# Altium schematic symbol library VCO.SCHLIB: 24 symbols
Pins are listed as number, name and electrical type; pins without a type are passive.

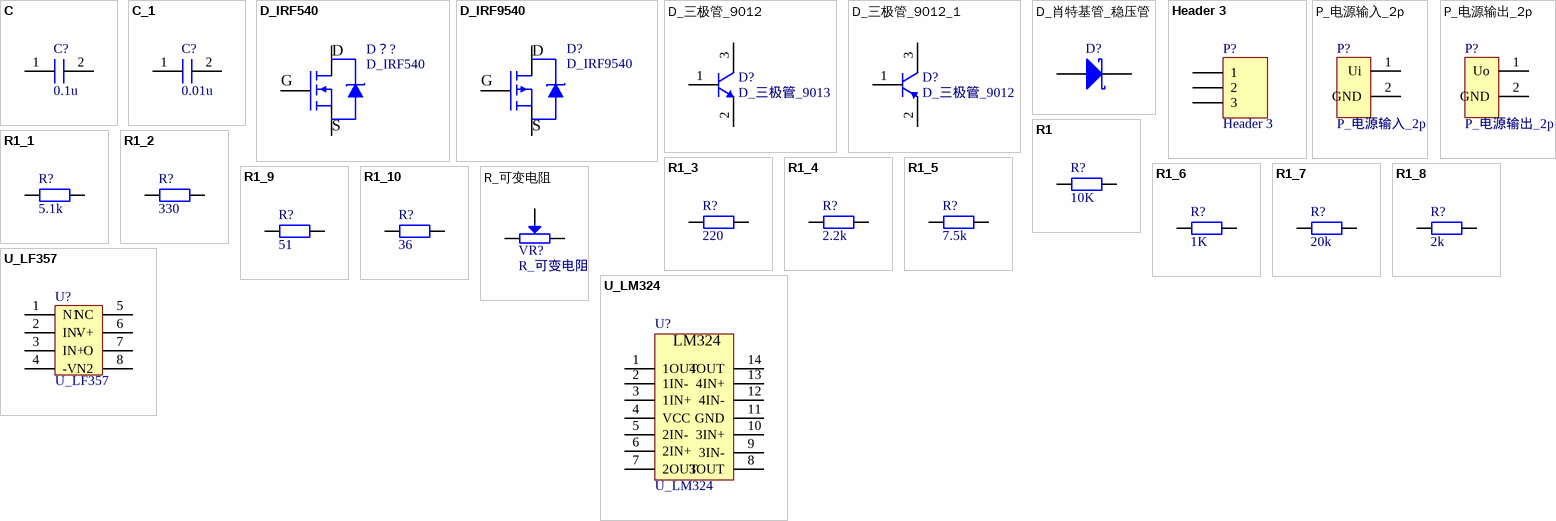
[diagram p0: symbols C to U_LM324]

## C
designator C?, comment 0.1u
footprint C 0805_M (1/8W贴片电阻)
pins: 1 "Supply Voltage", 2 "Supply Voltage"

## C_1
designator C?, comment 0.01u
footprint C 0805_M (1/8W贴片电阻)
pins: 1 "Supply Voltage", 2 "Supply Voltage"

## D_IRF540
designator D？?
footprint D_IRF540
pins: 1 G "24V输入", 2 D "24V输入", 3 S "24V输入"

## D_IRF9540
designator D?
footprint D_IRF9540
pins: 1 G "24V输入", 2 D "24V输入", 3 S "24V输入"

## D_三极管_9012
designator D?, comment D_三极管_9013
footprint D_三极管_9013
pins: 1 b "24V输入", 2 e "24V输入", 3 c "24V输入"

## D_三极管_9012_1
designator D?, comment D_三极管_9012
footprint D_三极管_9012
pins: 1 b "24V输入", 2 e "24V输入", 3 c "24V输入"

## D_肖特基管_稳压管
designator D?  (value not drawn)
Schottky Rectifier; Note: Terminal 2 is the TAB and is electrically connected to the cathode; Published: 8-Jun-2000; LatestRevisionDate: 17-Jul-2002; LatestRevisionNote: Re-released for DXP Platform.; DatasheetVersion: PD-2.057B; PackageVersion: Feb-1998; PackageReference: TO-220AC; Publisher: Altium Limited; PackageDescription: TO, Thru-Hole, Vertical, Heatsink Mounted; 3 In-Line Leads (1 Absent); Pitch 2.54 mm; ComponentLink1Description: Manufacturer Link; ComponentLink1URL: http://www.irf.com/; ComponentLink2Description: Datasheet; ComponentLink2URL: http://www.irf.com/product-info/datasheets/data/10tq.pdf
footprint TO-220AC (TO, Thru-Hole, Vertical, Heatsink Mounted; 3 In-Line Leads (1 Absent); Pitch 2.54 mm)
simulation model 10TQ035 (DIODE)
pins: 1 K, 3 A

## Header 3
designator P?
Header, 3-Pin; LatestRevisionDate: 17-Jul-2002; LatestRevisionNote: Re-released for DXP Platform.; Publisher: Altium Limited
signal-integrity model Connector
footprint P_电源输入端子_三端口_复用
pins: 1, 2, 3

## P_电源输入_2p
designator P?
footprint P_电源输入端子_二端口_复用
pins: 1 Ui "24V输入", 2 GND "24V输入"

## P_电源输出_2p
designator P?
footprint P_电源输入端子_二端口_复用
pins: 1 Uo "24V输入", 2 GND "24V输入"

## R1
designator R?, comment 10K
贴片电阻; 版权归属: 黎明电子style; BOM名称: 贴片电阻; 学习资源: https://lmdzstyle.taobao.com/
footprint R 0805_M (1/8W贴片电阻)
pins: 1, 2

## R1_1
designator R?, comment 5.1k
贴片电阻; 版权归属: 黎明电子style; BOM名称: 贴片电阻; 学习资源: https://lmdzstyle.taobao.com/
footprint R 0805_M (1/8W贴片电阻)
pins: 1, 2

## R1_2
designator R?, comment 330
贴片电阻; 版权归属: 黎明电子style; BOM名称: 贴片电阻; 学习资源: https://lmdzstyle.taobao.com/
footprint R 0805_M (1/8W贴片电阻)
pins: 1, 2

## R1_3
designator R?, comment 220
贴片电阻; 版权归属: 黎明电子style; BOM名称: 贴片电阻; 学习资源: https://lmdzstyle.taobao.com/
footprint R 0805_M (1/8W贴片电阻)
pins: 1, 2

## R1_4
designator R?, comment 2.2k
贴片电阻; 版权归属: 黎明电子style; BOM名称: 贴片电阻; 学习资源: https://lmdzstyle.taobao.com/
footprint R 0805_M (1/8W贴片电阻)
pins: 1, 2

## R1_5
designator R?, comment 7.5k
贴片电阻; 版权归属: 黎明电子style; BOM名称: 贴片电阻; 学习资源: https://lmdzstyle.taobao.com/
footprint R 0805_M (1/8W贴片电阻)
pins: 1, 2

## R1_6
designator R?, comment 1K
贴片电阻; 版权归属: 黎明电子style; BOM名称: 贴片电阻; 学习资源: https://lmdzstyle.taobao.com/
footprint R 0805_M (1/8W贴片电阻)
pins: 1, 2

## R1_7
designator R?, comment 20k
贴片电阻; 版权归属: 黎明电子style; BOM名称: 贴片电阻; 学习资源: https://lmdzstyle.taobao.com/
footprint R 0805_M (1/8W贴片电阻)
pins: 1, 2

## R1_8
designator R?, comment 2k
贴片电阻; 版权归属: 黎明电子style; BOM名称: 贴片电阻; 学习资源: https://lmdzstyle.taobao.com/
footprint R 0805_M (1/8W贴片电阻)
pins: 1, 2

## R1_9
designator R?, comment 51
贴片电阻; 版权归属: 黎明电子style; BOM名称: 贴片电阻; 学习资源: https://lmdzstyle.taobao.com/
footprint R 0805_M (1/8W贴片电阻)
pins: 1, 2

## R1_10
designator R?, comment 36
贴片电阻; 版权归属: 黎明电子style; BOM名称: 贴片电阻; 学习资源: https://lmdzstyle.taobao.com/
footprint R 0805_M (1/8W贴片电阻)
pins: 1, 2

## R_可变电阻
designator VR?
footprint R_微调卧式蓝白电位器
pins: 1, 2, 3 2

## U_LF357
designator U?
footprint P_DIP-8_L9.7-W6.4-P2.54-LS7.6-BL
pins: 1 N1 "24V输入", 2 IN- "24V输入", 3 IN+ "24V输入", 4 -V "24V输入", 5 NC "24V输入", 6 V+ "24V输入", 7 O "24V输入", 8 N2 "24V输入"

## U_LM324
designator U?
footprint U_LM324
pins: 1 1OUT "24V输入", 2 1IN- "24V输入", 3 1IN+ "24V输入", 4 VCC "24V输入", 5 2IN- "24V输入", 6 2IN+ "24V输入", 7 2OUT "24V输入", 8 3OUT "24V输入", 9 3IN- "24V输入", 10 3IN+ "24V输入", 11 GND "24V输入", 12 4IN- "24V输入", 13 4IN+ "24V输入", 14 4OUT "24V输入"
text: LM324